# Altium footprint library SRP7030CA2R2M.PcbLib: 1 footprints
Each footprint in its own frame and in the unit in brackets; x right, y up, seen from the top. Pads: shape width x height; smd on the part's side, far side on the other; paste and mask are expansions set on the pad; w line width, h text height; cw(c..) or ccw(c..) is an arc to the next point about the centre after c.
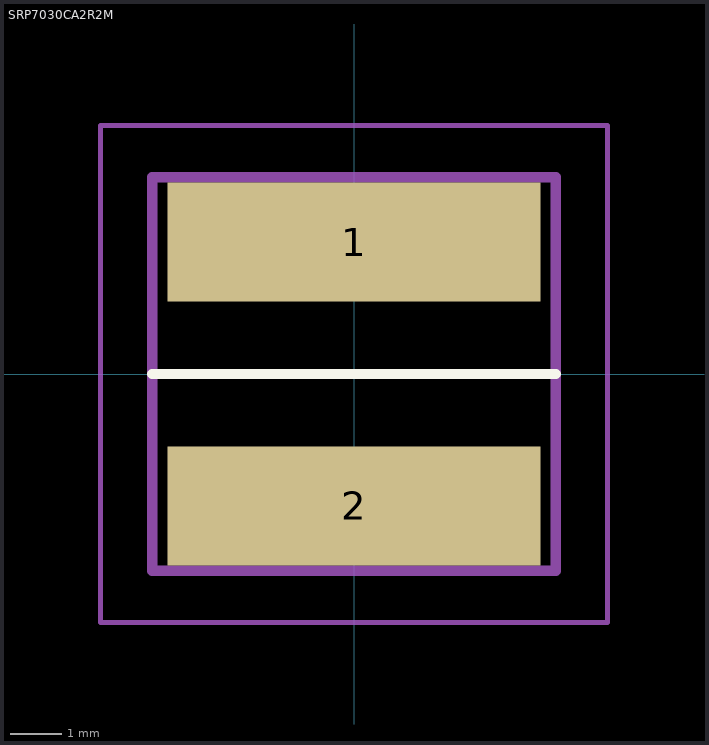
[diagram p0: the footprint, top view; thin cyan lines are the x and y axes]

## SRP7030CA2R2M [mm]
pads (2):
  rect 7.2x2.3 smd: 1(0,2.55) 2(0,-2.55)
Top Overlay:
  lines w0.2: -3.9,0 3.9,0
Mechanical 15:
  lines w0.2: -3.9,-3.8 3.9,-3.8 3.9,3.8 -3.9,3.8 -3.9,-3.8
Mechanical 20:
  lines w0.1: -4.9,-4.8 4.9,-4.8 4.9,4.8 -4.9,4.8 -4.9,-4.8